# EAGLE library part MAX11633 (library ICs)
12 Bit Analog to Digital Converter 16 Input 1 SAR 24-QSOP
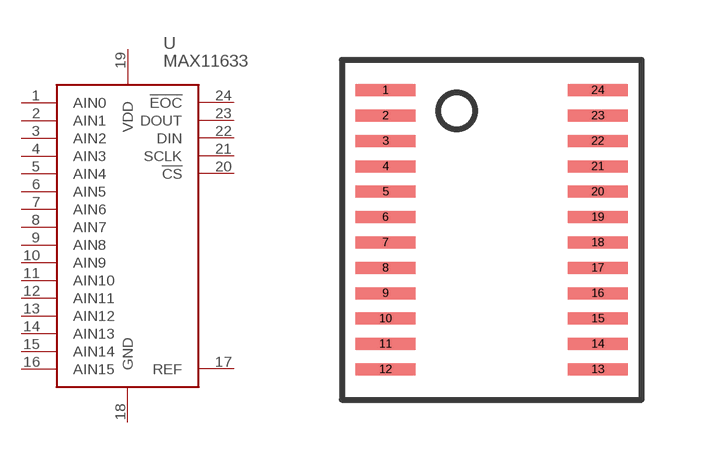
[diagram p192: symbol with the pads of QSOP24; footprint QSOP24]

Designator prefix U

## MAX11633EEG+ (DIGIKEY: MAX11633EEG+-ND; HEIGHT: 1.6; PRICE_PER: 6.65; VALUE: MAX11633)  [QSOP24]
1  AIN0
2  AIN1
3  AIN2
4  AIN3
5  AIN4
6  AIN5
7  AIN6
8  AIN7
9  AIN8
10  AIN9
11  AIN10
12  AIN11
13  AIN12
14  AIN13
15  AIN14
16  AIN15
17  REF
18  GND
19  VDD
20  !CS
21  SCLK
22  DIN
23  DOUT
24  !EOC

## Footprint QSOP24 (pad centres in mm)
smd 1.5 x 0.3: 1 -2.655,3.493; 2 -2.655,2.857; 3 -2.655,2.223; 4 -2.655,1.587; 5 -2.655,0.953; 6 -2.655,0.318; 7 -2.655,-0.318; 8 -2.655,-0.953; 9 -2.655,-1.587; 10 -2.655,-2.223; 11 -2.655,-2.857; 12 -2.655,-3.493; 13 2.655,-3.493; 14 2.655,-2.857; 15 2.655,-2.223; 16 2.655,-1.587; 17 2.655,-0.953; 18 2.655,-0.318; 19 2.655,0.318; 20 2.655,0.953; 21 2.655,1.587; 22 2.655,2.223; 23 2.655,2.857; 24 2.655,3.493